# EAGLE library part AD620 (library opamps)
AD620: Instrumentation opamp (Analog Devices) ±15V, ±18mA, 2nA bias 125µV offset, 1MHz UGF, 13nV/rt(Hz) noise
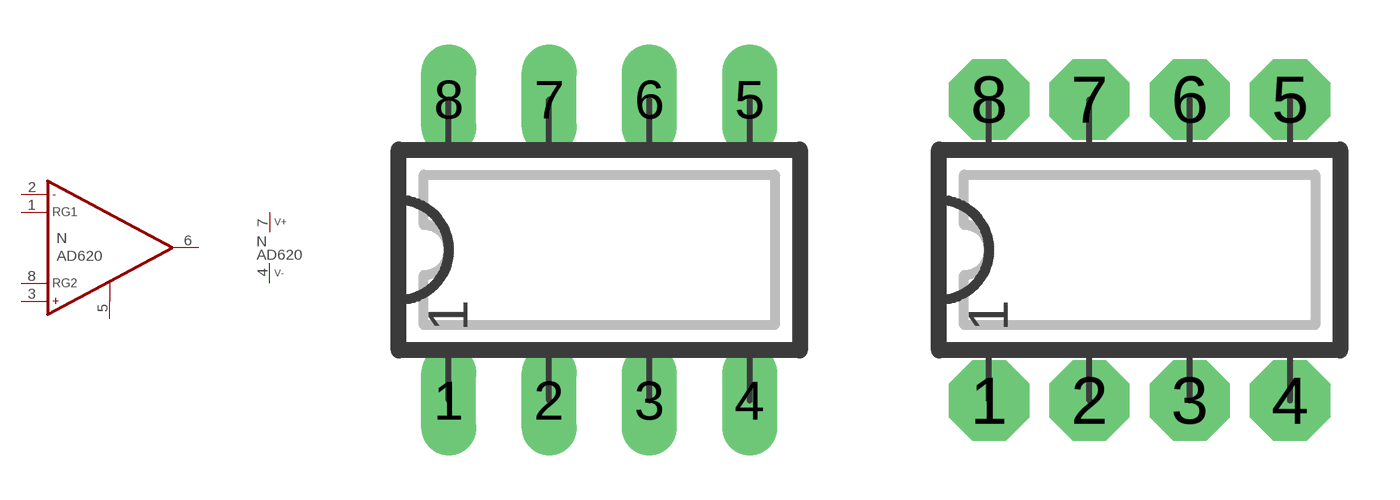
[diagram p277: symbol with the pads of DIP08L; footprints DIP08L, DIP08N]

Designator prefix N; gates A=INA_2 P=V+-

## AD620  [DIP08L]
1  A:RG1
2  A:OP-  in
3  A:OP+  in
4  P:V-  pwr
5  A:REF  in
6  A:OPO  out
7  P:V+  pwr
8  A:RG2

## AD620L  [DIP08L]
Pads as for DIP08L

## AD620N  [DIP08N]
Pads as for DIP08L

## AD620R  [DIP08R]
Pads as for DIP08L

## AD620S  [SO08]
Pads as for DIP08L

## Footprint DIP08L (pad centres in mm)
DIP-8, long pads Standard IC package, 8 pins
drill 0.813 pad 1.397 long: 1 -3.81,-3.81; 2 -1.27,-3.81; 3 1.27,-3.81; 4 3.81,-3.81; 5 3.81,3.81; 6 1.27,3.81; 7 -1.27,3.81; 8 -3.81,3.81

## Footprint DIP08N (pad centres in mm)
DIP-8 Standard IC package, 8 pins
drill 0.813 pad 2.032 octagon: 1 -3.81,-3.81; 2 -1.27,-3.81; 3 1.27,-3.81; 4 3.81,-3.81; 5 3.81,3.81; 6 1.27,3.81; 7 -1.27,3.81; 8 -3.81,3.81

## Footprint DIP08R (pad centres in mm)
DIP-8, reduced pads Standard IC package, 8 pins
drill 0.813 pad 1.397 square: 1 -3.81,-3.81; 2 -1.27,-3.81; 3 1.27,-3.81; 4 3.81,-3.81; 5 3.81,3.81; 6 1.27,3.81; 7 -1.27,3.81; 8 -3.81,3.81

## Footprint SO08 (pad centres in mm)
SO-8, SMD SOIC IC package, 8 pins
smd 0.635 x 1.778: 1 -1.905,-2.857; 2 -0.635,-2.857; 3 0.635,-2.857; 4 1.905,-2.857; 5 1.905,2.857; 6 0.635,2.857; 7 -0.635,2.857; 8 -1.905,2.857